# EAGLE library part MK66FN2M0VMD18 (library K66-BGA)
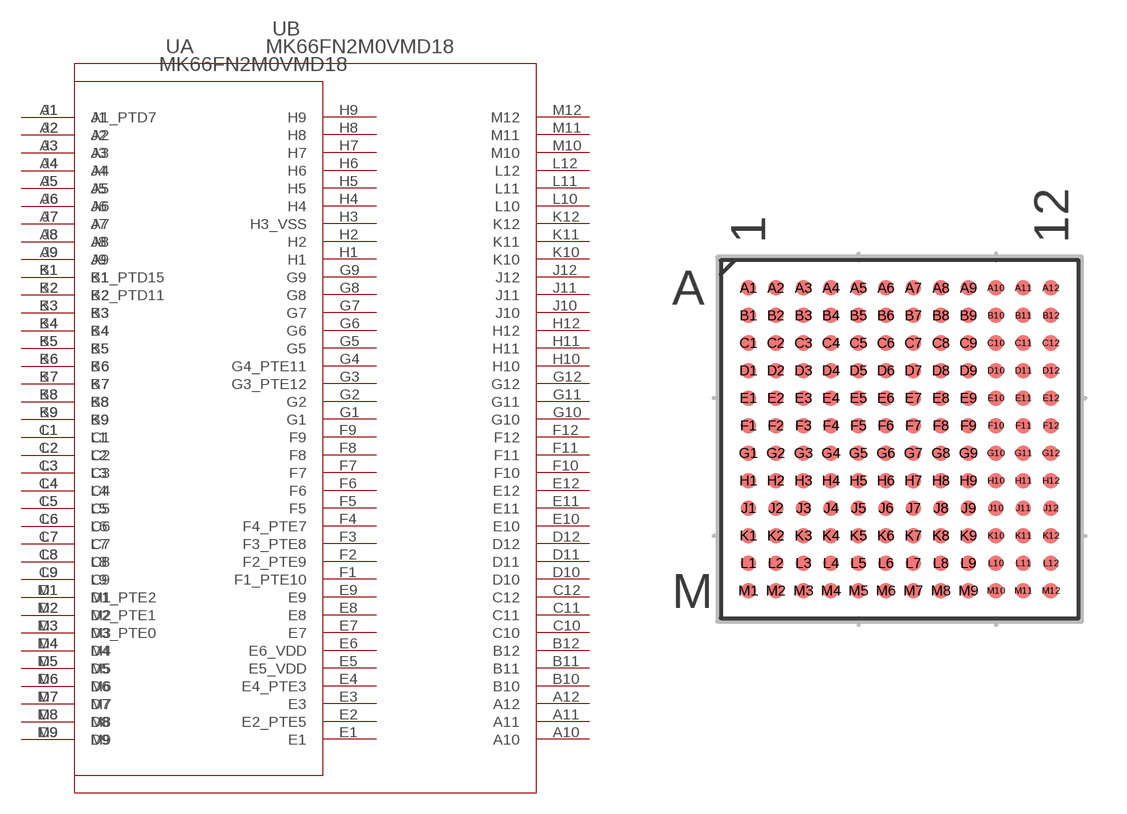
[diagram p0: symbol with the pads of 98ASA00222D; footprint 98ASA00222D]

Designator prefix U; gates A=MK66FN2M0VMD18_A B=MK66FN2M0VMD18_B

## MK66FN2M0VMD18 (MANUFACTURER_PART_NUMBER: mk66fn2m0vmd18; VENDOR: Freescale)  [98ASA00222D]
A1  A:A1_PTD7  pas
A2  A:A2  pas
A3  A:A3  pas
A4  A:A4  pas
A5  A:A5  pas
A6  A:A6  pas
A7  A:A7  pas
A8  A:A8  pas
A9  A:A9  pas
A10  B:A10  nc
A11  B:A11  pas
A12  B:A12  pas
B1  A:B1_PTD15  pas
B2  A:B2_PTD11  pas
B3  A:B3  pas
B4  A:B4  pas
B5  A:B5  pas
B6  A:B6  pas
B7  A:B7  pas
B8  A:B8  pas
B9  A:B9  pas
B10  B:B10  nc
B11  B:B11  pas
B12  B:B12  pas
C1  A:C1  pas
C2  A:C2  pas
C3  A:C3  pas
C4  A:C4  pas
C5  A:C5  pas
C6  A:C6  pas
C7  A:C7  pas
C8  A:C8  pas
C9  A:C9  pas
C10  B:C10  nc
C11  B:C11  pas
C12  B:C12  pas
D1  A:D1_PTE2  pas
D2  A:D2_PTE1  pas
D3  A:D3_PTE0  pas
D4  A:D4  pas
D5  A:D5  pas
D6  A:D6  pas
D7  A:D7  pas
D8  A:D8  pas
D9  A:D9  pas
D10  B:D10  pas
D11  B:D11  pas
D12  B:D12  pas
E1  A:E1  pas
E2  A:E2_PTE5  pas
E3  A:E3  pas
E4  A:E4_PTE3  pas
E5  A:E5_VDD  pwr
E6  A:E6_VDD  pwr
E7  A:E7  pwr
E8  A:E8  pwr
E9  A:E9  pas
E10  B:E10  pas
E11  B:E11  pas
E12  B:E12  pas
F1  A:F1_PTE10  pas
F2  A:F2_PTE9  pas
F3  A:F3_PTE8  pas
F4  A:F4_PTE7  pas
F5  A:F5  pwr
F6  A:F6  pwr
F7  A:F7  pwr
F8  A:F8  pwr
F9  A:F9  pas
F10  B:F10  pas
F11  B:F11  pas
F12  B:F12  pas
G1  A:G1  out
G2  A:G2  in
G3  A:G3_PTE12  pas
G4  A:G4_PTE11  pas
G5  A:G5  pwr
G6  A:G6  pwr
G7  A:G7  pwr
G8  A:G8  pwr
G9  A:G9  pas
G10  B:G10  pas
G11  B:G11  pas
G12  B:G12  pas
H1  A:H1  pas
H2  A:H2  pas
H3  A:H3_VSS  pwr
H4  A:H4  pas
H5  A:H5  pwr
H6  A:H6  pwr
H7  A:H7  pwr
H8  A:H8  pwr
H9  A:H9  pas
H10  B:H10  pas
H11  B:H11  pas
H12  B:H12  pas
J1  B:J1  pas
J2  B:J2  in
J3  B:J3  pas
J4  B:J4  pas
J5  B:J5  pas
J6  B:J6  pas
J7  B:J7  pas
J8  B:J8  pas
J9  B:J9  pas
J10  B:J10  pas
J11  B:J11  pas
J12  B:J12  pas
K1  B:K1  pas
K2  B:K2  pwr
K3  B:K3  pas
K4  B:K4  pas
K5  B:K5  pas
K6  B:K6  pas
K7  B:K7  pas
K8  B:K8  pas
K9  B:K9  pas
K10  B:K10  pas
K11  B:K11  pas
K12  B:K12  pas
L1  B:L1  pas
L2  B:L2  pas
L3  B:L3  pas
L4  B:L4  pas
L5  B:L5  pas
L6  B:L6  pwr
L7  B:L7  pas
L8  B:L8  pas
L9  B:L9  pas
L10  B:L10  pas
L11  B:L11  pas
L12  B:L12  pas
M1  B:M1  pas
M2  B:M2  pas
M3  B:M3  pas
M4  B:M4  pas
M5  B:M5  nc
M6  B:M6  pas
M7  B:M7  pas
M8  B:M8  pas
M9  B:M9  pas
M10  B:M10  pwr
M11  B:M11  pas
M12  B:M12  pas

## Footprint 98ASA00222D (pad centres in mm)
smd 0.559 x 0.559: A1 -5.5,5.5; A2 -4.5,5.5; A3 -3.5,5.5; A4 -2.5,5.5; A5 -1.5,5.5; A6 -0.5,5.5; A7 0.5,5.5; A8 1.5,5.5; A9 2.5,5.5; A10 3.5,5.5; A11 4.5,5.5; A12 5.5,5.5; B1 -5.5,4.5; B2 -4.5,4.5; B3 -3.5,4.5; B4 -2.5,4.5; B5 -1.5,4.5; B6 -0.5,4.5; B7 0.5,4.5; B8 1.5,4.5; B9 2.5,4.5; B10 3.5,4.5; B11 4.5,4.5; B12 5.5,4.5; C1 -5.5,3.5; C2 -4.5,3.5; C3 -3.5,3.5; C4 -2.5,3.5; C5 -1.5,3.5; C6 -0.5,3.5; C7 0.5,3.5; C8 1.5,3.5; C9 2.5,3.5; C10 3.5,3.5; C11 4.5,3.5; C12 5.5,3.5; D1 -5.5,2.5; D2 -4.5,2.5; D3 -3.5,2.5; D4 -2.5,2.5; D5 -1.5,2.5; D6 -0.5,2.5; D7 0.5,2.5; D8 1.5,2.5; D9 2.5,2.5; D10 3.5,2.5; D11 4.5,2.5; D12 5.5,2.5; E1 -5.5,1.5; E2 -4.5,1.5; E3 -3.5,1.5; E4 -2.5,1.5; E5 -1.5,1.5; E6 -0.5,1.5; E7 0.5,1.5; E8 1.5,1.5; E9 2.5,1.5; E10 3.5,1.5; E11 4.5,1.5; E12 5.5,1.5; F1 -5.5,0.5; F2 -4.5,0.5; F3 -3.5,0.5; F4 -2.5,0.5; F5 -1.5,0.5; F6 -0.5,0.5; F7 0.5,0.5; F8 1.5,0.5; F9 2.5,0.5; F10 3.5,0.5; F11 4.5,0.5; F12 5.5,0.5; G1 -5.5,-0.5; G2 -4.5,-0.5; G3 -3.5,-0.5; G4 -2.5,-0.5; G5 -1.5,-0.5; G6 -0.5,-0.5; G7 0.5,-0.5; G8 1.5,-0.5; G9 2.5,-0.5; G10 3.5,-0.5; G11 4.5,-0.5; G12 5.5,-0.5; H1 -5.5,-1.5; H2 -4.5,-1.5; H3 -3.5,-1.5; H4 -2.5,-1.5; H5 -1.5,-1.5; H6 -0.5,-1.5; H7 0.5,-1.5; H8 1.5,-1.5; H9 2.5,-1.5; H10 3.5,-1.5; H11 4.5,-1.5; H12 5.5,-1.5; J1 -5.5,-2.5; J2 -4.5,-2.5; J3 -3.5,-2.5; J4 -2.5,-2.5; J5 -1.5,-2.5; J6 -0.5,-2.5; J7 0.5,-2.5; J8 1.5,-2.5; J9 2.5,-2.5; J10 3.5,-2.5; J11 4.5,-2.5; J12 5.5,-2.5; K1 -5.5,-3.5; K2 -4.5,-3.5; K3 -3.5,-3.5; K4 -2.5,-3.5; K5 -1.5,-3.5; K6 -0.5,-3.5; K7 0.5,-3.5; K8 1.5,-3.5; K9 2.5,-3.5; K10 3.5,-3.5; K11 4.5,-3.5; K12 5.5,-3.5; L1 -5.5,-4.5; L2 -4.5,-4.5; L3 -3.5,-4.5; L4 -2.5,-4.5; L5 -1.5,-4.5; L6 -0.5,-4.5; L7 0.5,-4.5; L8 1.5,-4.5; L9 2.5,-4.5; L10 3.5,-4.5; L11 4.5,-4.5; L12 5.5,-4.5; M1 -5.5,-5.5; M2 -4.5,-5.5; M3 -3.5,-5.5; M4 -2.5,-5.5; M5 -1.5,-5.5; M6 -0.5,-5.5; M7 0.5,-5.5; M8 1.5,-5.5; M9 2.5,-5.5; M10 3.5,-5.5; M11 4.5,-5.5; M12 5.5,-5.5